# Altium footprint library USB4105-GF-A.PCBLIB: 1 footprints
Each footprint in its own frame and in the unit in brackets; x right, y up, seen from the top. Pads: shape width x height; smd on the part's side, far side on the other; paste and mask are expansions set on the pad; w line width, h text height; cw(c..) or ccw(c..) is an arc to the next point about the centre after c.
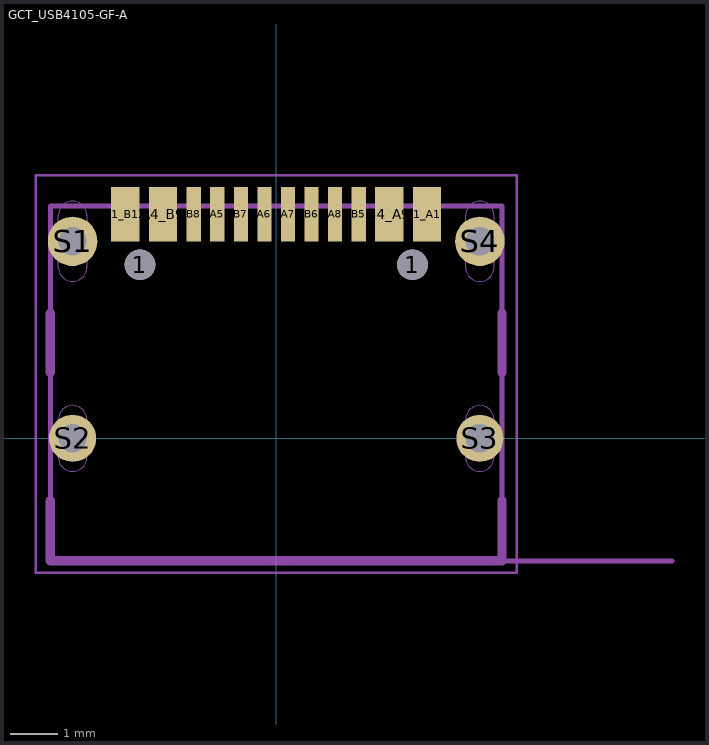
[diagram p0: the footprint, top view; thin cyan lines are the x and y axes]

## GCT_USB4105-GF-A [mm]
pads (18):
  round 0.65 hole 0.65 unplated: 1(-2.89,3.68) 1(2.89,3.68)
  rect 0.6x1.15 smd: A1_B12(-3.2,4.755) A4_B9(-2.4,4.755) B1_A12(3.2,4.755) B4_A9(2.4,4.755)
  rect 0.3x1.15 smd: A5(-1.25,4.755) A6(-0.25,4.755) A7(0.25,4.755) A8(1.25,4.755) B5(1.75,4.755) B6(0.75,4.755) B7(-0.75,4.755) B8(-1.75,4.755)
  round 1.05 / inner round 1.524 / far side round 1.05 hole 0.6: S1(-4.32,4.18) S4(4.32,4.18)
  round 1 / inner round 1.524 / far side round 1 hole 0.6: S2(-4.32,0) S3(4.32,0)
Assembly Top:
  lines w0.1: 4.8,-2.6 8.4,-2.6 ; -4.79,-2.6 4.79,-2.6 4.79,4.93 -4.79,4.93 -4.79,-2.6
Mechanical 22:
  lines w0.2: -4.79,-1.32 -4.79,-2.6 4.79,-2.6 4.79,-1.32 ; -4.79,1.4 -4.79,2.65 ; 4.79,1.4 4.79,2.65
Mechanical 30:
  lines w0.05: -5.1,-2.85 -5.1,5.58 5.1,5.58 5.1,-2.85 -5.1,-2.85
Mech33:
  lines w0: -4.62,-0.4 ccw(c-4.32,-0.4) -4.32,-0.7 ccw(c-4.32,-0.4) -4.02,-0.4 -4.02,0.4 ccw(c-4.32,0.4) -4.32,0.7 ccw(c-4.32,0.4) -4.62,0.4 -4.62,-0.4 ; -4.62,3.63 ccw(c-4.32,3.63) -4.32,3.33 ccw(c-4.32,3.63) -4.02,3.63 -4.02,4.73 ccw(c-4.32,4.73) -4.32,5.03 ccw(c-4.32,4.73) -4.62,4.73 -4.62,3.63 ; 4.02,-0.4 ccw(c4.32,-0.4) 4.32,-0.7 ccw(c4.32,-0.4) 4.62,-0.4 4.62,0.4 ccw(c4.32,0.4) 4.32,0.7 ccw(c4.32,0.4) 4.02,0.4 4.02,-0.4 ; 4.02,3.63 ccw(c4.32,3.63) 4.32,3.33 ccw(c4.32,3.63) 4.62,3.63 4.62,4.73 ccw(c4.32,4.73) 4.32,5.03 ccw(c4.32,4.73) 4.02,4.73 4.02,3.63